# Altium footprint library DHN-04.PcbLib: 1 footprints
Each footprint in its own frame and in the unit in brackets; x right, y up, seen from the top. Pads: shape width x height; smd on the part's side, far side on the other; paste and mask are expansions set on the pad; w line width, h text height; cw(c..) or ccw(c..) is an arc to the next point about the centre after c.
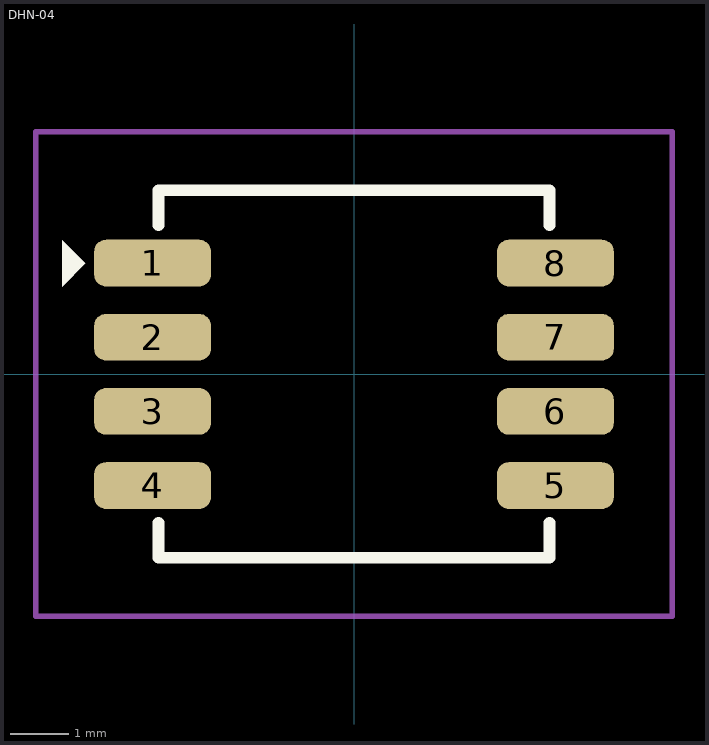
[diagram p0: the footprint, top view; thin cyan lines are the x and y axes]

## DHN-04 [mm]
pads (8):
  rrect50% 2x0.8 smd: 1(-3.45,1.905) 2(-3.45,0.635) 3(-3.45,-0.635) 4(-3.45,-1.905) 5(3.45,-1.905) 6(3.45,-0.635) 7(3.45,0.635) 8(3.45,1.905)
Top Overlay:
  region: -5,1.5 -5,2.3 -4.6,1.9
  lines w0.2: -3.35,-2.545 -3.35,-3.145 3.35,-3.145 3.35,-2.545 ; -3.35,2.555 -3.35,3.155 3.35,3.155 3.35,2.555
Top Courtyard:
  lines w0.1: -5.45,-4.145 -3.35,-4.145 5.45,-4.145 5.45,4.155 -5.45,4.155 -5.45,-4.145
3D body "User Library-DHN-04F.STEP": height 1.6, standoff 0, extent -3.35,-3.145 3.35,3.155